# Altium footprint library XBee.PCBLIB: 15 footprints
Each footprint in its own frame and in the unit in brackets; x right, y up, seen from the top. Pads: shape width x height; smd on the part's side, far side on the other; paste and mask are expansions set on the pad; w line width, h text height; cw(c..) or ccw(c..) is an arc to the next point about the centre after c.
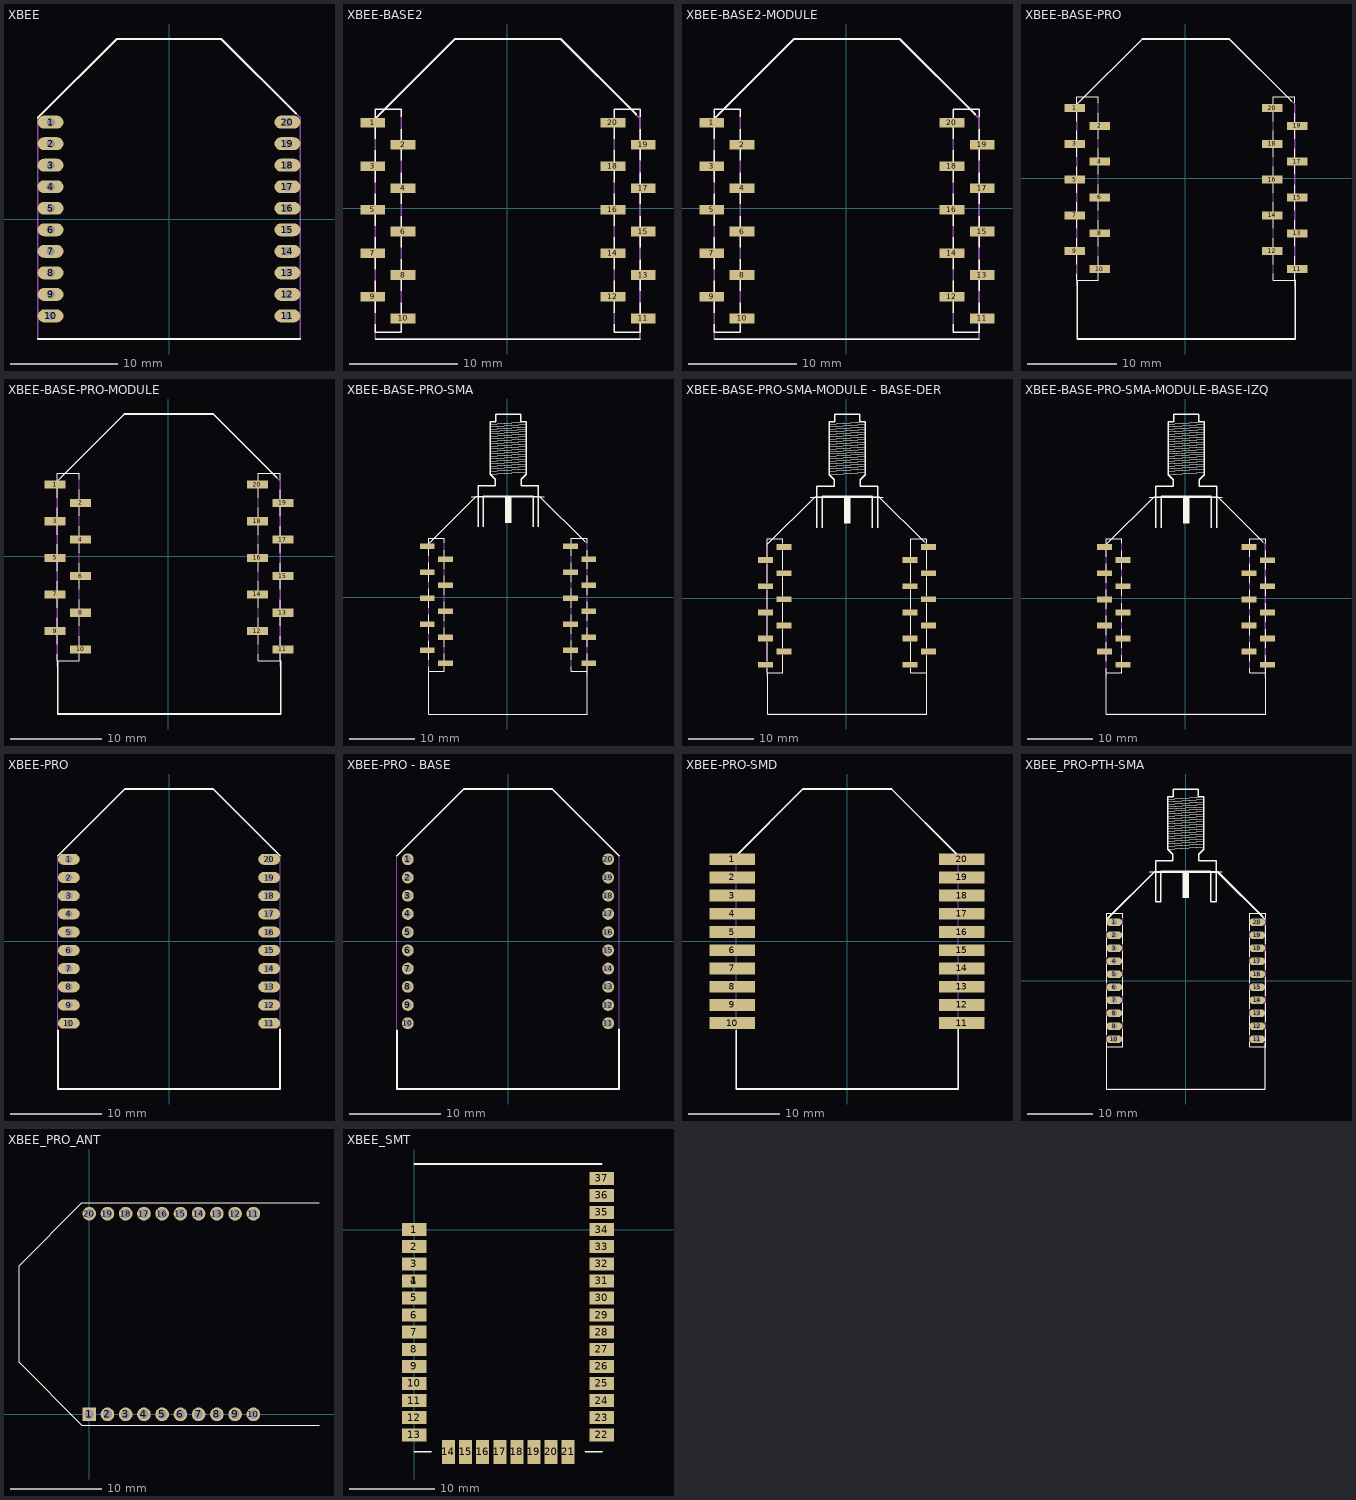
[diagram p0: the footprints below, top view; thin cyan lines are the x and y axes]

## PCBComponent_1 [mm]

## XBEE [mil]
pads (20):
  oval 94.5x47.25 hole 31.5: 1(-433.07,354.33) 2(-433.07,275.59) 3(-433.07,196.85) 4(-433.07,118.11) 5(-433.07,39.37) 6(-433.07,-39.37) 7(-433.07,-118.11) 8(-433.07,-196.85) 9(-433.07,-275.59) 10(-433.07,-354.33) 11(433.07,-354.33) 12(433.07,-275.59) 13(433.07,-196.85) 14(433.07,-118.11) 15(433.07,-39.37) 16(433.07,39.37) 17(433.07,118.11) 18(433.07,196.85) 19(433.07,275.59) 20(433.07,354.33)
Top Overlay:
  lines w7: -480,-438.67 480,-438.67 ; -480,370 -191.67,658.33 191.67,658.33 465,385
Mechanical 16:
  lines w5: -480,370 -191.67,658.33 191.67,658.33 480,370
  lines w7: -480,-438 -480,370 ; 480,-438 480,370
3D body "User Library-XBee-Chip.STEP": height 139.06, standoff -156.22, extent -482.28,-440.67 482.29,657.76

## XBEE-BASE2 [mm]
pads (20):
  rect 2.29x0.89 smd: 1(-12.354,7.848) 2(-9.564,5.848) 3(-12.354,3.848) 4(-9.564,1.848) 5(-12.354,-0.152) 6(-9.564,-2.152) 7(-12.354,-4.152) 8(-9.564,-6.152) 9(-12.354,-8.152) 10(-9.564,-10.152) 11(12.531,-10.153) 12(9.741,-8.153) 13(12.531,-6.153) 14(9.741,-4.153) 15(12.531,-2.153) 16(9.741,-0.153) 17(12.531,1.847) 18(9.741,3.847) 19(12.531,5.847) 20(9.741,7.847)
Top Overlay:
  lines w0.127: -12.136,-10.692 -12.136,-11.402 -9.736,-11.402 -9.736,-8.724 ; -12.136,-9.613 -12.136,-6.692 ; -12.136,-5.612 -12.136,-2.691 ; -12.136,-1.612 -12.136,1.309 ; -12.136,2.389 -12.136,5.31 ; -12.136,6.389 -12.136,9.098 -9.736,9.098 -9.736,8.421 ; -12.128,-12.041 12.255,-12.041 ; -12.128,8.246 -4.805,15.569 ; -9.736,-7.581 -9.736,-4.723 ; -9.736,-3.58 -9.736,-0.723 ; -9.736,0.42 -9.736,3.278 ; -9.736,4.421 -9.736,7.278 ; 9.864,-10.693 9.864,-11.403 12.264,-11.403 12.264,-8.725 ; 9.864,-9.614 9.864,-6.693 ; 9.864,-5.613 9.864,-2.692 ; 9.864,-1.613 9.864,1.308 ; 9.864,2.388 9.864,5.309 ; 9.864,6.388 9.864,9.097 12.264,9.097 12.264,8.42 ; 12.264,-7.582 12.264,-4.724 ; 12.264,-3.581 12.264,-0.724 ; 12.264,0.419 12.264,3.277 ; 12.264,4.42 12.264,7.277
  lines w0.178: -4.805,15.569 4.932,15.569 11.874,8.627
Mechanical 16:
  lines w0.127: -12.135,-10.699 -12.135,-9.619 ; -12.135,-6.698 -12.135,-5.619 ; -12.135,-2.698 -12.135,-1.618 ; -12.135,1.303 -12.135,2.382 ; -12.135,5.303 -12.135,6.383 ; -9.735,-8.724 -9.735,-7.581 ; -9.735,-4.723 -9.735,-3.58 ; -9.735,-0.723 -9.735,0.42 ; -9.735,3.278 -9.735,4.421 ; -9.735,7.278 -9.735,8.421 ; -4.805,15.569 4.932,15.569 12.255,8.246 ; 9.865,-10.7 9.865,-9.62 ; 9.865,-6.699 9.865,-5.62 ; 9.865,-2.699 9.865,-1.619 ; 9.865,1.302 9.865,2.381 ; 9.865,5.302 9.865,6.382 ; 12.265,-8.725 12.265,-7.582 ; 12.265,-4.724 12.265,-3.581 ; 12.265,-0.724 12.265,0.419 ; 12.265,3.277 12.265,4.42 ; 12.265,7.277 12.265,8.42
  lines w0.178: -12.128,8.246 -12.128,-12.041 12.255,-12.041 12.255,8.246 ; -11.747,8.627 -4.805,15.569
3D body "Samtec-SMM-110-02-F-S.step": height 3.68, standoff 0, extent -13.132,-11.151 -8.814,8.839
3D body "Samtec-SMM-110-02-F-S.step": height 3.68, standoff 0, extent 8.966,-11.151 13.284,8.839

## XBEE-BASE2-MODULE [mm]
pads (20):
  rect 2.29x0.89 smd: 1(-12.354,7.848) 2(-9.564,5.848) 3(-12.354,3.848) 4(-9.564,1.848) 5(-12.354,-0.152) 6(-9.564,-2.152) 7(-12.354,-4.152) 8(-9.564,-6.152) 9(-12.354,-8.152) 10(-9.564,-10.152) 11(12.531,-10.153) 12(9.741,-8.153) 13(12.531,-6.153) 14(9.741,-4.153) 15(12.531,-2.153) 16(9.741,-0.153) 17(12.531,1.847) 18(9.741,3.847) 19(12.531,5.847) 20(9.741,7.847)
Top Overlay:
  lines w0.127: -12.136,-10.692 -12.136,-11.402 -9.736,-11.402 -9.736,-8.724 ; -12.136,-9.613 -12.136,-6.692 ; -12.136,-5.612 -12.136,-2.691 ; -12.136,-1.612 -12.136,1.309 ; -12.136,2.389 -12.136,5.31 ; -12.136,6.389 -12.136,9.098 -9.736,9.098 -9.736,8.421 ; -12.128,-12.041 12.255,-12.041 ; -12.128,8.246 -4.805,15.569 ; -9.736,-7.581 -9.736,-4.723 ; -9.736,-3.58 -9.736,-0.723 ; -9.736,0.42 -9.736,3.278 ; -9.736,4.421 -9.736,7.278 ; 9.864,-10.693 9.864,-11.403 12.264,-11.403 12.264,-8.725 ; 9.864,-9.614 9.864,-6.693 ; 9.864,-5.613 9.864,-2.692 ; 9.864,-1.613 9.864,1.308 ; 9.864,2.388 9.864,5.309 ; 9.864,6.388 9.864,9.097 12.264,9.097 12.264,8.42 ; 12.264,-7.582 12.264,-4.724 ; 12.264,-3.581 12.264,-0.724 ; 12.264,0.419 12.264,3.277 ; 12.264,4.42 12.264,7.277
  lines w0.178: -4.805,15.569 4.932,15.569 11.874,8.627
Mechanical 16:
  lines w0.127: -12.135,-10.699 -12.135,-9.619 ; -12.135,-6.698 -12.135,-5.619 ; -12.135,-2.698 -12.135,-1.618 ; -12.135,1.303 -12.135,2.382 ; -12.135,5.303 -12.135,6.383 ; -9.735,-8.724 -9.735,-7.581 ; -9.735,-4.723 -9.735,-3.58 ; -9.735,-0.723 -9.735,0.42 ; -9.735,3.278 -9.735,4.421 ; -9.735,7.278 -9.735,8.421 ; -4.805,15.569 4.932,15.569 12.255,8.246 ; 9.865,-10.7 9.865,-9.62 ; 9.865,-6.699 9.865,-5.62 ; 9.865,-2.699 9.865,-1.619 ; 9.865,1.302 9.865,2.381 ; 9.865,5.302 9.865,6.382 ; 12.265,-8.725 12.265,-7.582 ; 12.265,-4.724 12.265,-3.581 ; 12.265,-0.724 12.265,0.419 ; 12.265,3.277 12.265,4.42 ; 12.265,7.277 12.265,8.42
  lines w0.178: -12.128,8.246 -12.128,-12.041 12.255,-12.041 12.255,8.246 ; -11.747,8.627 -4.805,15.569
3D body "Samtec-SMM-110-02-F-S.step": height 3.68, standoff 0, extent -13.132,-11.151 -8.814,8.839
3D body "Samtec-SMM-110-02-F-S.step": height 3.68, standoff 0, extent 8.966,-11.151 13.284,8.839
3D body "User Library-XBee-Chip.STEP": height 7.21, standoff -0.29, extent -12.174,-12.254 12.326,15.646

## XBEE-BASE-PRO [mm]
pads (20):
  rect 2.29x0.89 smd: 1(-12.354,7.848) 2(-9.564,5.848) 3(-12.354,3.848) 4(-9.564,1.848) 5(-12.354,-0.152) 6(-9.564,-2.152) 7(-12.354,-4.152) 8(-9.564,-6.152) 9(-12.354,-8.152) 10(-9.564,-10.152) 11(12.531,-10.153) 12(9.741,-8.153) 13(12.531,-6.153) 14(9.741,-4.153) 15(12.531,-2.153) 16(9.741,-0.153) 17(12.531,1.847) 18(9.741,3.847) 19(12.531,5.847) 20(9.741,7.847)
Top Overlay:
  lines w0.127: -12.136,-10.692 -12.136,-11.402 -9.736,-11.402 -9.736,-8.724 ; -12.136,-9.613 -12.136,-6.692 ; -12.136,-5.612 -12.136,-2.691 ; -12.136,-1.612 -12.136,1.309 ; -12.136,2.389 -12.136,5.31 ; -12.136,6.389 -12.136,9.098 -9.736,9.098 -9.736,8.421 ; -12.128,8.246 -4.805,15.569 ; -9.736,-7.581 -9.736,-4.723 ; -9.736,-3.58 -9.736,-0.723 ; -9.736,0.42 -9.736,3.278 ; -9.736,4.421 -9.736,7.278 ; 9.864,-10.693 9.864,-11.403 12.264,-11.403 12.264,-8.725 ; 9.864,-9.614 9.864,-6.693 ; 9.864,-5.613 9.864,-2.692 ; 9.864,-1.613 9.864,1.308 ; 9.864,2.388 9.864,5.309 ; 9.864,6.388 9.864,9.097 12.264,9.097 12.264,8.42 ; 12.264,-7.582 12.264,-4.724 ; 12.264,-3.581 12.264,-0.724 ; 12.264,0.419 12.264,3.277 ; 12.264,4.42 12.264,7.277
  lines w0.178: -12.09,-11.532 -12.09,-17.975 12.294,-17.975 12.294,-11.405 ; -4.805,15.569 4.932,15.569 11.874,8.627
Mechanical 16:
  lines w0.127: -12.135,-10.699 -12.135,-9.619 ; -12.135,-6.698 -12.135,-5.619 ; -12.135,-2.698 -12.135,-1.618 ; -12.135,1.303 -12.135,2.382 ; -12.135,5.303 -12.135,6.383 ; -12.09,-17.975 12.294,-17.975 ; -9.735,-8.724 -9.735,-7.581 ; -9.735,-4.723 -9.735,-3.58 ; -9.735,-0.723 -9.735,0.42 ; -9.735,3.278 -9.735,4.421 ; -9.735,7.278 -9.735,8.421 ; -4.805,15.569 4.932,15.569 12.255,8.246 ; 9.865,-10.7 9.865,-9.62 ; 9.865,-6.699 9.865,-5.62 ; 9.865,-2.699 9.865,-1.619 ; 9.865,1.302 9.865,2.381 ; 9.865,5.302 9.865,6.382 ; 12.265,-8.725 12.265,-7.582 ; 12.265,-4.724 12.265,-3.581 ; 12.265,-0.724 12.265,0.419 ; 12.265,3.277 12.265,4.42 ; 12.265,7.277 12.265,8.42
  lines w0.178: -12.128,-12.041 -12.128,8.246 ; -11.747,8.627 -4.805,15.569 ; 12.255,-12.041 12.255,8.246
3D body "Samtec-SMM-110-02-F-S.step": height 3.68, standoff 0, extent -13.132,-11.151 -8.814,8.839
3D body "Samtec-SMM-110-02-F-S.step": height 3.68, standoff 0, extent 8.966,-11.151 13.284,8.839

## XBEE-BASE-PRO-MODULE [mm]
pads (20):
  rect 2.29x0.89 smd: 1(-12.354,7.848) 2(-9.564,5.848) 3(-12.354,3.848) 4(-9.564,1.848) 5(-12.354,-0.152) 6(-9.564,-2.152) 7(-12.354,-4.152) 8(-9.564,-6.152) 9(-12.354,-8.152) 10(-9.564,-10.152) 11(12.531,-10.153) 12(9.741,-8.153) 13(12.531,-6.153) 14(9.741,-4.153) 15(12.531,-2.153) 16(9.741,-0.153) 17(12.531,1.847) 18(9.741,3.847) 19(12.531,5.847) 20(9.741,7.847)
Top Overlay:
  lines w0.127: -12.136,-10.692 -12.136,-11.402 -9.736,-11.402 -9.736,-8.724 ; -12.136,-9.613 -12.136,-6.692 ; -12.136,-5.612 -12.136,-2.691 ; -12.136,-1.612 -12.136,1.309 ; -12.136,2.389 -12.136,5.31 ; -12.136,6.389 -12.136,9.098 -9.736,9.098 -9.736,8.421 ; -12.128,8.246 -4.805,15.569 ; -9.736,-7.581 -9.736,-4.723 ; -9.736,-3.58 -9.736,-0.723 ; -9.736,0.42 -9.736,3.278 ; -9.736,4.421 -9.736,7.278 ; 9.864,-10.693 9.864,-11.403 12.264,-11.403 12.264,-8.725 ; 9.864,-9.614 9.864,-6.693 ; 9.864,-5.613 9.864,-2.692 ; 9.864,-1.613 9.864,1.308 ; 9.864,2.388 9.864,5.309 ; 9.864,6.388 9.864,9.097 12.264,9.097 12.264,8.42 ; 12.264,-7.582 12.264,-4.724 ; 12.264,-3.581 12.264,-0.724 ; 12.264,0.419 12.264,3.277 ; 12.264,4.42 12.264,7.277
  lines w0.178: -12.09,-11.532 -12.09,-17.221 12.294,-17.221 12.294,-11.405 ; -4.805,15.569 4.932,15.569 11.874,8.627
Mechanical 16:
  lines w0.127: -12.135,-10.699 -12.135,-9.619 ; -12.135,-6.698 -12.135,-5.619 ; -12.135,-2.698 -12.135,-1.618 ; -12.135,1.303 -12.135,2.382 ; -12.135,5.303 -12.135,6.383 ; -12.065,-17.221 12.319,-17.221 ; -9.735,-8.724 -9.735,-7.581 ; -9.735,-4.723 -9.735,-3.58 ; -9.735,-0.723 -9.735,0.42 ; -9.735,3.278 -9.735,4.421 ; -9.735,7.278 -9.735,8.421 ; -4.805,15.569 4.932,15.569 12.255,8.246 ; 9.865,-10.7 9.865,-9.62 ; 9.865,-6.699 9.865,-5.62 ; 9.865,-2.699 9.865,-1.619 ; 9.865,1.302 9.865,2.381 ; 9.865,5.302 9.865,6.382 ; 12.265,-8.725 12.265,-7.582 ; 12.265,-4.724 12.265,-3.581 ; 12.265,-0.724 12.265,0.419 ; 12.265,3.277 12.265,4.42 ; 12.265,7.277 12.265,8.42
  lines w0.178: -12.128,-12.041 -12.128,8.246 ; -11.747,8.627 -4.805,15.569 ; 12.255,-12.041 12.255,8.246
3D body "Samtec-SMM-110-02-F-S.step": height 3.68, standoff 0, extent -13.132,-11.151 -8.814,8.839
3D body "Samtec-SMM-110-02-F-S.step": height 3.68, standoff 0, extent 8.966,-11.151 13.284,8.839
3D body "User Library-XBeeProS1-1.step": height 16.52, standoff -0.04, extent -11.738,-17.151 11.992,15.789

## XBEE-BASE-PRO-SMA [mm]
pads (20):
  rect 2.29x0.89 smd: 1(-12.354,7.848) 2(-9.564,5.848) 3(-12.354,3.848) 4(-9.564,1.848) 5(-12.354,-0.152) 6(-9.564,-2.152) 7(-12.354,-4.152) 8(-9.564,-6.152) 9(-12.354,-8.152) 10(-9.564,-10.152) 11(12.531,-10.153) 12(9.741,-8.153) 13(12.531,-6.153) 14(9.741,-4.153) 15(12.531,-2.153) 16(9.741,-0.153) 17(12.531,1.847) 18(9.741,3.847) 19(12.531,5.847) 20(9.741,7.847)
Top Overlay:
  region: -0.373,15.519 -0.373,11.444 0.627,11.444 0.627,15.519
  lines w0: -5.537,15.494 5.639,15.494
  lines w0.127: -12.136,-10.692 -12.136,-11.402 -9.736,-11.402 -9.736,-8.724 ; -12.136,-9.613 -12.136,-6.692 ; -12.136,-5.612 -12.136,-2.691 ; -12.136,-1.612 -12.136,1.309 ; -12.136,2.389 -12.136,5.31 ; -12.136,6.389 -12.136,9.098 -9.736,9.098 -9.736,8.421 ; -12.128,8.246 -4.805,15.569 ; -9.736,-7.581 -9.736,-4.723 ; -9.736,-3.58 -9.736,-0.723 ; -9.736,0.42 -9.736,3.278 ; -9.736,4.421 -9.736,7.278 ; -2.667,18.923 2.794,19.304 ; -2.667,19.431 2.794,19.812 ; -2.667,19.812 2.794,20.193 ; -2.667,20.193 2.794,20.574 ; -2.667,20.574 2.794,20.955 ; -2.667,20.955 2.794,21.336 ; -2.667,21.336 2.794,21.717 ; -2.667,21.717 2.794,22.098 ; -2.667,22.098 2.794,22.479 ; -2.667,22.479 2.794,22.86 ; -2.667,22.86 2.794,23.241 ; -2.667,23.241 2.794,23.622 ; -2.667,23.622 2.794,24.003 ; -2.667,24.003 2.794,24.384 ; -2.667,24.384 2.794,24.765 ; -2.667,24.765 2.794,25.146 ; -2.667,25.146 2.794,25.527 ; -2.667,25.908 2.794,26.289 ; -2.667,26.289 2.794,26.67 ; -2.667,26.67 2.794,27.051 ; -2.54,25.527 2.921,25.908 ; 9.864,-10.693 9.864,-11.403 12.264,-11.403 12.264,-8.725 ; 9.864,-9.614 9.864,-6.693 ; 9.864,-5.613 9.864,-2.692 ; 9.864,-1.613 9.864,1.308 ; 9.864,2.388 9.864,5.309 ; 9.864,6.388 9.864,9.097 12.264,9.097 12.264,8.42 ; 12.264,-7.582 12.264,-4.724 ; 12.264,-3.581 12.264,-0.724 ; 12.264,0.419 12.264,3.277 ; 12.264,4.42 12.264,7.277
  lines w0.178: -12.09,-11.532 -12.09,-17.975 12.294,-17.975 12.294,-11.405 ; -4.805,15.569 4.932,15.569 11.874,8.627 ; -4.678,15.569 5.059,15.569
  lines w0.203: -4.523,10.844 -4.523,17.171 -1.873,17.171 -1.873,18.178 -2.623,18.928 -2.623,27.046 -1.773,27.046 -1.773,28.221 2.027,28.221 2.027,27.046 2.877,27.046 2.877,18.928 2.127,18.178 2.127,17.171 4.777,17.171 4.777,10.844 ; -3.723,10.844 -3.723,15.594 3.977,15.594 3.977,10.844
Mechanical 16:
  lines w0.127: -12.135,-10.699 -12.135,-9.619 ; -12.135,-6.698 -12.135,-5.619 ; -12.135,-2.698 -12.135,-1.618 ; -12.135,1.303 -12.135,2.382 ; -12.135,5.303 -12.135,6.383 ; -12.09,-17.975 12.294,-17.975 ; -9.735,-8.724 -9.735,-7.581 ; -9.735,-4.723 -9.735,-3.58 ; -9.735,-0.723 -9.735,0.42 ; -9.735,3.278 -9.735,4.421 ; -9.735,7.278 -9.735,8.421 ; -4.729,15.569 5.008,15.569 ; -4.678,15.569 5.059,15.569 ; 4.932,15.569 12.255,8.246 ; 9.865,-10.7 9.865,-9.62 ; 9.865,-6.699 9.865,-5.62 ; 9.865,-2.699 9.865,-1.619 ; 9.865,1.302 9.865,2.381 ; 9.865,5.302 9.865,6.382 ; 12.265,-8.725 12.265,-7.582 ; 12.265,-4.724 12.265,-3.581 ; 12.265,-0.724 12.265,0.419 ; 12.265,3.277 12.265,4.42 ; 12.265,7.277 12.265,8.42
  lines w0.178: -12.128,-12.041 -12.128,8.246 ; -11.747,8.627 -4.805,15.569 ; 12.255,-12.041 12.255,8.246
3D body "Samtec-SMM-110-02-F-S.step": height 3.68, standoff 0, extent 8.966,-11.151 13.284,8.839
3D body "Samtec-SMM-110-02-F-S.step": height 3.68, standoff 0, extent -13.132,-11.151 -8.814,8.839

## XBEE-BASE-PRO-SMA-MODULE - BASE-DER [mm]
pads (20):
  rect 2.29x0.89 smd: 1(-9.576,7.849) 2(-12.366,5.849) 3(-9.576,3.849) 4(-12.366,1.849) 5(-9.576,-0.151) 6(-12.366,-2.151) 7(-9.576,-4.151) 8(-12.366,-6.151) 9(-9.576,-8.151) 10(-12.366,-10.151) 11(9.732,-10.151) 12(12.522,-8.151) 13(9.732,-6.151) 14(12.522,-4.151) 15(9.732,-2.151) 16(12.522,-0.151) 17(9.732,1.849) 18(12.522,3.849) 19(9.732,5.849) 20(12.522,7.849)
Top Overlay:
  region: -0.373,15.519 -0.373,11.444 0.627,11.444 0.627,15.519
  lines w0: -5.537,15.494 5.639,15.494
  lines w0.127: -12.136,-10.692 -12.136,-11.402 -9.736,-11.402 -9.736,-8.724 ; -12.136,-9.613 -12.136,-6.692 ; -12.136,-5.612 -12.136,-2.691 ; -12.136,-1.612 -12.136,1.309 ; -12.136,2.389 -12.136,5.31 ; -12.136,6.389 -12.136,9.098 -9.736,9.098 -9.736,8.421 ; -12.128,8.246 -4.805,15.569 ; -9.736,-7.581 -9.736,-4.723 ; -9.736,-3.58 -9.736,-0.723 ; -9.736,0.42 -9.736,3.278 ; -9.736,4.421 -9.736,7.278 ; -2.667,18.923 2.794,19.304 ; -2.667,19.431 2.794,19.812 ; -2.667,19.812 2.794,20.193 ; -2.667,20.193 2.794,20.574 ; -2.667,20.574 2.794,20.955 ; -2.667,20.955 2.794,21.336 ; -2.667,21.336 2.794,21.717 ; -2.667,21.717 2.794,22.098 ; -2.667,22.098 2.794,22.479 ; -2.667,22.479 2.794,22.86 ; -2.667,22.86 2.794,23.241 ; -2.667,23.241 2.794,23.622 ; -2.667,23.622 2.794,24.003 ; -2.667,24.003 2.794,24.384 ; -2.667,24.384 2.794,24.765 ; -2.667,24.765 2.794,25.146 ; -2.667,25.146 2.794,25.527 ; -2.667,25.908 2.794,26.289 ; -2.667,26.289 2.794,26.67 ; -2.667,26.67 2.794,27.051 ; -2.54,25.527 2.921,25.908 ; 9.864,-10.693 9.864,-11.403 12.264,-11.403 12.264,-8.725 ; 9.864,-9.614 9.864,-6.693 ; 9.864,-5.613 9.864,-2.692 ; 9.864,-1.613 9.864,1.308 ; 9.864,2.388 9.864,5.309 ; 9.864,6.388 9.864,9.097 12.264,9.097 12.264,8.42 ; 12.264,-7.582 12.264,-4.724 ; 12.264,-3.581 12.264,-0.724 ; 12.264,0.419 12.264,3.277 ; 12.264,4.42 12.264,7.277
  lines w0.178: -12.09,-11.532 -12.09,-17.704 12.294,-17.704 12.294,-11.405 ; -4.805,15.569 4.932,15.569 11.874,8.627 ; -4.678,15.569 5.059,15.569
  lines w0.203: -4.523,10.844 -4.523,17.171 -1.873,17.171 -1.873,18.178 -2.623,18.928 -2.623,27.046 -1.773,27.046 -1.773,28.221 2.027,28.221 2.027,27.046 2.877,27.046 2.877,18.928 2.127,18.178 2.127,17.171 4.777,17.171 4.777,10.844 ; -3.723,10.844 -3.723,15.594 3.977,15.594 3.977,10.844
Mechanical 16:
  lines w0.127: -12.135,-10.699 -12.135,-9.619 ; -12.135,-6.698 -12.135,-5.619 ; -12.135,-2.698 -12.135,-1.618 ; -12.135,1.303 -12.135,2.382 ; -12.135,5.303 -12.135,6.383 ; -12.09,-17.653 12.294,-17.653 ; -9.735,-8.724 -9.735,-7.581 ; -9.735,-4.723 -9.735,-3.58 ; -9.735,-0.723 -9.735,0.42 ; -9.735,3.278 -9.735,4.421 ; -9.735,7.278 -9.735,8.421 ; -4.729,15.569 5.008,15.569 ; -4.678,15.569 5.059,15.569 ; 4.932,15.569 12.255,8.246 ; 9.865,-10.7 9.865,-9.62 ; 9.865,-6.699 9.865,-5.62 ; 9.865,-2.699 9.865,-1.619 ; 9.865,1.302 9.865,2.381 ; 9.865,5.302 9.865,6.382 ; 12.265,-8.725 12.265,-7.582 ; 12.265,-4.724 12.265,-3.581 ; 12.265,-0.724 12.265,0.419 ; 12.265,3.277 12.265,4.42 ; 12.265,7.277 12.265,8.42
  lines w0.178: -12.128,-12.041 -12.128,8.246 ; -11.747,8.627 -4.805,15.569 ; 12.255,-12.041 12.255,8.246
3D body "SparkFun Electronics-WRL_10419.step": height 12.45, standoff 1.39, extent -12.217,-17.272 12.167,28.956
3D body "_ _ _N101BFLC-RC.STEP": height 4.61, standoff 0.01, extent -12.971,-11.405 -8.975,9.095
3D body "_ _ _N101BFLC-RC.STEP": height 4.61, standoff 0.01, extent 9.076,-11.356 13.072,9.144

## XBEE-BASE-PRO-SMA-MODULE-BASE-IZQ [mm]
pads (20):
  rect 2.29x0.89 smd: 1(-12.354,7.848) 2(-9.564,5.848) 3(-12.354,3.848) 4(-9.564,1.848) 5(-12.354,-0.152) 6(-9.564,-2.152) 7(-12.354,-4.152) 8(-9.564,-6.152) 9(-12.354,-8.152) 10(-9.564,-10.152) 11(12.531,-10.153) 12(9.741,-8.153) 13(12.531,-6.153) 14(9.741,-4.153) 15(12.531,-2.153) 16(9.741,-0.153) 17(12.531,1.847) 18(9.741,3.847) 19(12.531,5.847) 20(9.741,7.847)
Top Overlay:
  region: -0.373,15.519 -0.373,11.444 0.627,11.444 0.627,15.519
  lines w0: -5.537,15.494 5.639,15.494
  lines w0.127: -12.136,-10.692 -12.136,-11.402 -9.736,-11.402 -9.736,-8.724 ; -12.136,-9.613 -12.136,-6.692 ; -12.136,-5.612 -12.136,-2.691 ; -12.136,-1.612 -12.136,1.309 ; -12.136,2.389 -12.136,5.31 ; -12.136,6.389 -12.136,9.098 -9.736,9.098 -9.736,8.421 ; -12.128,8.246 -4.805,15.569 ; -9.736,-7.581 -9.736,-4.723 ; -9.736,-3.58 -9.736,-0.723 ; -9.736,0.42 -9.736,3.278 ; -9.736,4.421 -9.736,7.278 ; -2.667,18.923 2.794,19.304 ; -2.667,19.431 2.794,19.812 ; -2.667,19.812 2.794,20.193 ; -2.667,20.193 2.794,20.574 ; -2.667,20.574 2.794,20.955 ; -2.667,20.955 2.794,21.336 ; -2.667,21.336 2.794,21.717 ; -2.667,21.717 2.794,22.098 ; -2.667,22.098 2.794,22.479 ; -2.667,22.479 2.794,22.86 ; -2.667,22.86 2.794,23.241 ; -2.667,23.241 2.794,23.622 ; -2.667,23.622 2.794,24.003 ; -2.667,24.003 2.794,24.384 ; -2.667,24.384 2.794,24.765 ; -2.667,24.765 2.794,25.146 ; -2.667,25.146 2.794,25.527 ; -2.667,25.908 2.794,26.289 ; -2.667,26.289 2.794,26.67 ; -2.667,26.67 2.794,27.051 ; -2.54,25.527 2.921,25.908 ; 9.864,-10.693 9.864,-11.403 12.264,-11.403 12.264,-8.725 ; 9.864,-9.614 9.864,-6.693 ; 9.864,-5.613 9.864,-2.692 ; 9.864,-1.613 9.864,1.308 ; 9.864,2.388 9.864,5.309 ; 9.864,6.388 9.864,9.097 12.264,9.097 12.264,8.42 ; 12.264,-7.582 12.264,-4.724 ; 12.264,-3.581 12.264,-0.724 ; 12.264,0.419 12.264,3.277 ; 12.264,4.42 12.264,7.277
  lines w0.178: -12.09,-11.532 -12.09,-17.704 12.294,-17.704 12.294,-11.405 ; -4.805,15.569 4.932,15.569 11.874,8.627 ; -4.678,15.569 5.059,15.569
  lines w0.203: -4.523,10.844 -4.523,17.171 -1.873,17.171 -1.873,18.178 -2.623,18.928 -2.623,27.046 -1.773,27.046 -1.773,28.221 2.027,28.221 2.027,27.046 2.877,27.046 2.877,18.928 2.127,18.178 2.127,17.171 4.777,17.171 4.777,10.844 ; -3.723,10.844 -3.723,15.594 3.977,15.594 3.977,10.844
Mechanical 16:
  lines w0.127: -12.135,-10.699 -12.135,-9.619 ; -12.135,-6.698 -12.135,-5.619 ; -12.135,-2.698 -12.135,-1.618 ; -12.135,1.303 -12.135,2.382 ; -12.135,5.303 -12.135,6.383 ; -12.09,-17.653 12.294,-17.653 ; -9.735,-8.724 -9.735,-7.581 ; -9.735,-4.723 -9.735,-3.58 ; -9.735,-0.723 -9.735,0.42 ; -9.735,3.278 -9.735,4.421 ; -9.735,7.278 -9.735,8.421 ; -4.729,15.569 5.008,15.569 ; -4.678,15.569 5.059,15.569 ; 4.932,15.569 12.255,8.246 ; 9.865,-10.7 9.865,-9.62 ; 9.865,-6.699 9.865,-5.62 ; 9.865,-2.699 9.865,-1.619 ; 9.865,1.302 9.865,2.381 ; 9.865,5.302 9.865,6.382 ; 12.265,-8.725 12.265,-7.582 ; 12.265,-4.724 12.265,-3.581 ; 12.265,-0.724 12.265,0.419 ; 12.265,3.277 12.265,4.42 ; 12.265,7.277 12.265,8.42
  lines w0.178: -12.128,-12.041 -12.128,8.246 ; -11.747,8.627 -4.805,15.569 ; 12.255,-12.041 12.255,8.246
3D body "SparkFun Electronics-WRL_10419.step": height 11.49, standoff 0.43, extent -12.167,-17.653 12.217,28.575
3D body "Samtec-SMM-110-02-F-S.step": height 3.68, standoff 0, extent -13.132,-11.151 -8.814,8.839
3D body "Samtec-SMM-110-02-F-S.step": height 3.68, standoff 0, extent 8.966,-11.151 13.284,8.839

## XBEE-PRO [mil]
pads (20):
  oval 94.5x47.25 hole 31.5: 1(-433.07,354.33) 2(-433.07,275.59) 3(-433.07,196.85) 4(-433.07,118.11) 5(-433.07,39.37) 6(-433.07,-39.37) 7(-433.07,-118.11) 8(-433.07,-196.85) 9(-433.07,-275.59) 10(-433.07,-354.33) 11(433.07,-354.33) 12(433.07,-275.59) 13(433.07,-196.85) 14(433.07,-118.11) 15(433.07,-39.37) 16(433.07,39.37) 17(433.07,118.11) 18(433.07,196.85) 19(433.07,275.59) 20(433.07,354.33)
Top Overlay:
  lines w7: -480,-385 -480,-638.67 480,-638.67 480,-380 ; -480,370 -191.67,658.33 191.67,658.33 480,370
Mechanical 16:
  lines w5: -480,-638.67 480,-638.67 480,370 191.67,658.33 -191.67,658.33 -480,370 -480,-638.67
3D body "User Library-XBeeProS1-1.step": height 503.23, standoff -148.58, extent -466,-642 468.25,654.85

## XBEE-PRO - BASE [mm]
pads (20):
  round 1.3 hole 0.8: 1(-11,9) 2(-11,7) 3(-11,5) 4(-11,3) 5(-11,1) 6(-11,-1) 7(-11,-3) 8(-11,-5) 9(-11,-7) 10(-11,-9) 11(11,-9) 12(11,-7) 13(11,-5) 14(11,-3) 15(11,-1) 16(11,1) 17(11,3) 18(11,5) 19(11,7) 20(11,9)
Top Overlay:
  lines w0.178: -12.192,-9.779 -12.192,-16.222 12.192,-16.222 12.192,-9.652 ; -12.192,9.398 -4.868,16.722 4.868,16.722 12.192,9.398
Mechanical 16:
  lines w0.127: -12.192,-16.222 -12.192,9.398 -4.868,16.722 4.868,16.722 12.192,9.398 12.192,-16.222 -12.192,-16.222
3D body "62001011821.stp": height 4.31, standoff -2.69, extent 9.601,-10.289 12.101,10.211
3D body "62001011821.stp": height 4.31, standoff -2.69, extent -12.096,-10.289 -9.596,10.211
3D body: height 0.25, standoff 0, extent 3.581,10.16 3.581,10.16

## XBEE-PRO-SMD [mm]
pads (20):
  rect 5x1.3 smd: 1(-12.636,9.014) 2(-12.636,7.014) 3(-12.636,5.014) 4(-12.636,3.014) 5(-12.636,1.014) 6(-12.636,-0.986) 7(-12.636,-2.986) 8(-12.636,-4.986) 9(-12.636,-6.986) 10(-12.636,-8.986) 11(12.605,-8.986) 12(12.605,-6.986) 13(12.605,-4.986) 14(12.605,-2.986) 15(12.605,-0.986) 16(12.605,1.014) 17(12.605,3.014) 18(12.605,5.014) 19(12.605,7.014) 20(12.605,9.014)
Top Overlay:
  lines w0.178: -12.192,-9.779 -12.192,-16.222 12.192,-16.222 12.192,-9.652 ; -12.192,9.398 -4.868,16.722 4.868,16.722 12.192,9.398
Mechanical 16:
  lines w0.127: -12.192,-16.222 -12.192,9.398 -4.868,16.722 4.868,16.722 12.192,9.398 12.192,-16.222 -12.192,-16.222

## XBEE_PRO-PTH-SMA [mil]
pads (20):
  oval 94.5x47.25 hole 31.5: 1(-433.07,354.33) 2(-433.07,275.59) 3(-433.07,196.85) 4(-433.07,118.11) 5(-433.07,39.37) 6(-433.07,-39.37) 7(-433.07,-118.11) 8(-433.07,-196.85) 9(-433.07,-275.59) 10(-433.07,-354.33) 11(433.07,-354.33) 12(433.07,-275.59) 13(433.07,-196.85) 14(433.07,-118.11) 15(433.07,-39.37) 16(433.07,39.37) 17(433.07,118.11) 18(433.07,196.85) 19(433.07,275.59) 20(433.07,354.33)
Top Overlay:
  region: -19.68,660.99 -19.69,500.55 19.68,500.55 19.69,660.99
  lines w0: -220,660 220,660
  lines w5: -480,-656 480,-656 ; -477.8,-370.96 -477.8,-398.91 -383.31,-398.91 -383.31,-293.46 ; -477.8,-328.46 -477.8,-213.46 ; -477.8,-170.96 -477.8,-55.96 ; -477.8,-13.46 -477.8,101.54 ; -477.8,144.04 -477.8,259.04 ; -477.8,301.54 -477.8,408.18 -383.31,408.18 -383.31,381.54 ; -477.5,374.63 -189.17,662.96 ; -383.31,-248.46 -383.31,-135.96 ; -383.31,-90.96 -383.31,21.54 ; -383.31,66.54 -383.31,179.04 ; -383.31,224.04 -383.31,336.54 ; -110,795 105,810 ; -110,815 105,830 ; -110,830 105,845 ; -110,845 105,860 ; -110,860 105,875 ; -110,875 105,890 ; -110,890 105,905 ; -110,905 105,920 ; -110,920 105,935 ; -110,935 105,950 ; -110,950 105,965 ; -110,965 105,980 ; -110,980 105,995 ; -110,995 105,1010 ; -110,1010 105,1025 ; -110,1025 105,1040 ; -110,1040 105,1055 ; -110,1070 105,1085 ; -110,1085 105,1100 ; -110,1100 105,1115 ; -105,1055 110,1070 ; 388.33,-371 388.33,-398.95 482.82,-398.95 482.82,-293.5 ; 388.33,-328.5 388.33,-213.5 ; 388.33,-171 388.33,-56 ; 388.33,-13.5 388.33,101.5 ; 388.33,144 388.33,259 ; 388.33,301.5 388.33,408.13 482.82,408.13 482.82,381.5 ; 482.82,-248.5 482.82,-136 ; 482.82,-91 482.82,21.5 ; 482.82,66.5 482.82,179 ; 482.82,224 482.82,336.5
  lines w7: -480,-656 -480,-385 ; -480,370 -191.67,658.33 191.67,658.33 480,370 ; -189.17,662.96 194.17,662.96 467.5,389.63 ; 480,-656 480,-380
  lines w8: -183.07,476.93 -183.07,726.02 -78.74,726.02 -78.74,765.67 -108.27,795.2 -108.27,1114.8 -74.8,1114.8 -74.8,1161.06 74.8,1161.06 74.8,1114.8 108.27,1114.8 108.27,795.2 78.74,765.67 78.74,726.02 183.07,726.02 183.07,476.93 151.57,476.93 151.57,663.94 -151.57,663.94 -151.57,476.93 -183.07,476.93
Mechanical 16:
  lines w5: -480,-638.67 -480,370 -191.67,658.33 191.67,658.33 480,370 480,-638.67 ; -477.76,-371.21 -477.76,-328.71 ; -477.76,-213.71 -477.76,-171.21 ; -477.76,-56.21 -477.76,-13.71 ; -477.76,101.29 -477.76,143.79 ; -477.76,258.79 -477.76,301.29 ; -383.26,-293.46 -383.26,-248.46 ; -383.26,-135.96 -383.26,-90.96 ; -383.26,21.54 -383.26,66.54 ; -383.26,179.04 -383.26,224.04 ; -383.26,336.54 -383.26,381.54 ; -189.17,662.96 194.17,662.96 482.5,374.63 ; 388.38,-371.25 388.38,-328.75 ; 388.38,-213.75 388.38,-171.25 ; 388.38,-56.25 388.38,-13.75 ; 388.38,101.25 388.38,143.75 ; 388.38,258.75 388.38,301.25 ; 482.88,-293.5 482.88,-248.5 ; 482.88,-136 482.88,-91 ; 482.88,21.5 482.88,66.5 ; 482.88,179 482.88,224 ; 482.88,336.5 482.88,381.5
  lines w7: -477.5,374.63 -477.5,-653 482.5,-653 482.5,374.63 ; -462.5,389.63 -189.17,662.96
3D body "SparkFun Electronics-WRL_10419.step": height 307.29, standoff -128, extent -477,-654 483,1166

## XBEE_PRO_ANT [mm]
pads (20):
  rect 1.5x1.5 hole 1: 1(0,0)
  round 1.5 hole 1: 2(2,0) 3(4,0) 4(6,0) 5(8,0) 6(10,0) 7(12,0) 8(14,0) 9(16,0) 10(18,0) 11(18,22) 12(16,22) 13(14,22) 14(12,22) 15(10,22) 16(8,22) 17(6,22) 18(4,22) 19(2,22) 20(0,22)
Top Overlay:
  lines w0.1: 25.2,-1.2 -0.8,-1.2 -7.7,5.7 -7.7,6.5 -7.7,15.5 -7.7,16.3 -0.8,23.2 25.2,23.2
3D body "User Library-XBee_PRO.STEP": height 29.79, standoff -4.09, extent -7.675,-1.165 25.265,23.215

## XBEE_SMT [mil]
pads (38):
  rect 112x60 smd: 1(0,-237) 1(0,0) 2(0,-79) 3(0,-158) 4(0,-237) 5(0,-316) 6(0,-395) 7(0,-474) 8(0,-553) 9(0,-632) 10(0,-711) 11(0,-790) 12(0,-869) 13(0,-948) 22(866,-948) 23(866,-869) 24(866,-790) 25(866,-711) 26(866,-632) 27(866,-553) 28(866,-474) 29(866,-395) 30(866,-316) 31(866,-237) 32(866,-158) 33(866,-79) 34(866,0) 35(866,79) 36(866,158) 37(866,237)
  rect 60x112 smd: 14(158,-1027) 15(237,-1027) 16(316,-1027) 17(395,-1027) 18(474,-1027) 19(553,-1027) 20(632,-1027) 21(711,-1027)
Top Overlay:
  lines w7.87: 0,-1027 79,-1027 ; 0,303 866,303 ; 790,-1027 869,-1027
3D body "User Library-XBee SMT-1.step": height 120.5, standoff 0, extent 0,-1031 866,299